# Altium footprint library SK56.PcbLib: 2 footprints
Each footprint in its own frame and in the unit in brackets; x right, y up, seen from the top. Pads: shape width x height; smd on the part's side, far side on the other; paste and mask are expansions set on the pad; w line width, h text height; cw(c..) or ccw(c..) is an arc to the next point about the centre after c.
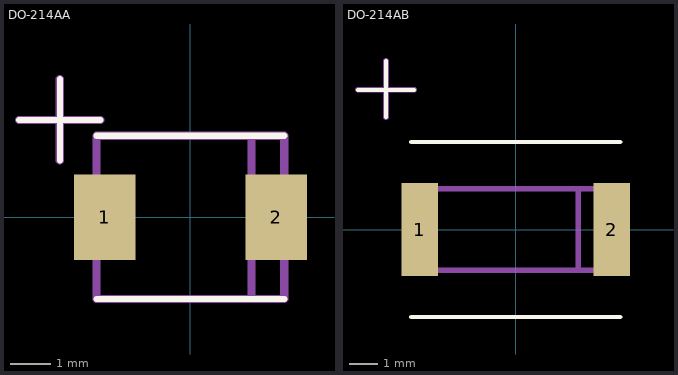
[diagram p0: the footprints below, top view; thin cyan lines are the x and y axes]

## DO-214AA [mm] "Molded Diode, 2-Leads,"
height 2.3
pads (2):
  rect 1.5x2.1 smd paste-0.2 mask+0.05: 1(-2.1,0) 2(2.1,0)
Top Overlay:
  lines w0.15: -4.2,2.389 -2.2,2.389 ; -3.2,1.389 -3.2,3.389 ; -2.3,-2 2.3,-2 ; -2.3,2 2.3,2
Mechanical 1:
  lines w0.2: -4.2,2.389 -2.2,2.389 ; -3.2,1.389 -3.2,3.389 ; 1.5,-2 1.5,2 ; -2.3,-2 2.3,-2 2.3,2 -2.3,2 -2.3,-2
3D body "DIOM4326X23N.step": height 2.3, standoff 0, extent -2.52,-1.46 2.52,1.46

## DO-214AB [mm] "Molded Diode, 2-Leads, Body 6,60x5,60mm, IPC Medium Density"
height 2.3
pads (2):
  rect 1.3x3.3 smd paste-0.2 mask+0.05: 1(-3.425,0) 2(3.425,0)
Top Overlay:
  lines w0.15: -5.625,4.979 -3.625,4.979 ; -4.625,4.009 -4.625,6.009 ; -3.725,-3.12 3.725,-3.12 ; -3.725,3.12 3.725,3.12
Mechanical 1:
  lines w0.2: -5.625,4.979 -3.625,4.979 ; -4.625,4.009 -4.625,6.009 ; 2.225,-1.46 2.225,1.46 ; -3.725,-1.46 -3.725,1.46 3.725,1.46 3.725,-1.46 -3.725,-1.46
3D body "DIOM4326X23N.step": height 2.3, standoff 0, extent -2.52,-1.46 2.52,1.46